# Altium footprint library TO-126-4.PcbLib: 1 footprints
Each footprint in its own frame and in the unit in brackets; x right, y up, seen from the top. Pads: shape width x height; smd on the part's side, far side on the other; paste and mask are expansions set on the pad; w line width, h text height; cw(c..) or ccw(c..) is an arc to the next point about the centre after c.
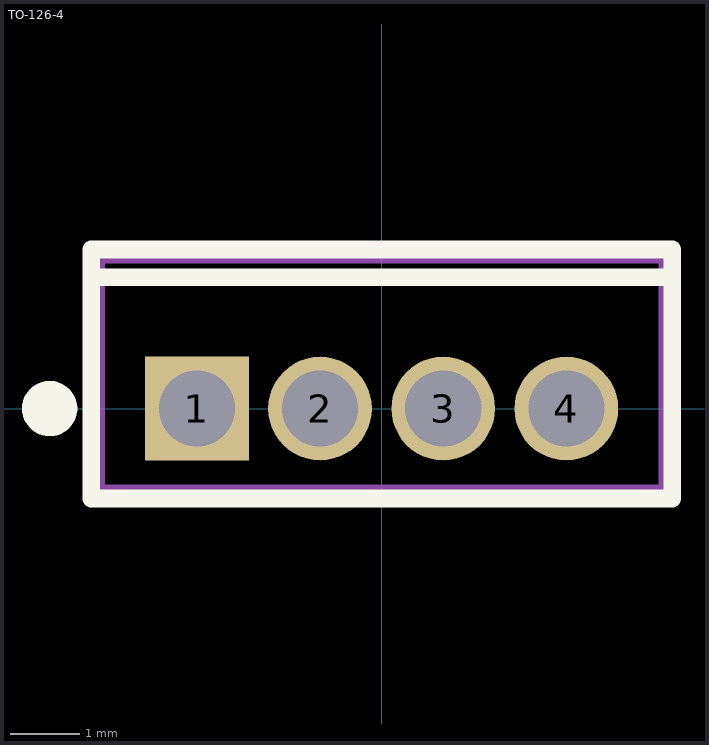
[diagram p0: the footprint, top view; thin cyan lines are the x and y axes]

## TO-126-4 [mm]
pads (4):
  rect 1.5x1.5 hole 1.1 mask+0.051: 1(-2.67,0)
  round 1.5 hole 1.1 mask+0.051: 2(-0.89,0) 3(0.89,0) 4(2.67,0)
Top Overlay:
  circle w0.4: c-4.8,0 r0.2
  lines w0.254: -4.2,1.9 4.2,1.9 ; -4.2,-1.3 4.2,-1.3 4.2,2.3 -4.2,2.3 -4.2,-1.3
Mechanical 13:
  lines w0.2: -4.1,-1.2 4.1,-1.2 4.1,2.2 -4.1,2.2 -4.1,-1.2